# Altium footprint library ESDALC6V1-1U2.PcbLib: 3 footprints
Each footprint in its own frame and in the unit in brackets; x right, y up, seen from the top. Pads: shape width x height; smd on the part's side, far side on the other; paste and mask are expansions set on the pad; w line width, h text height; cw(c..) or ccw(c..) is an arc to the next point about the centre after c.
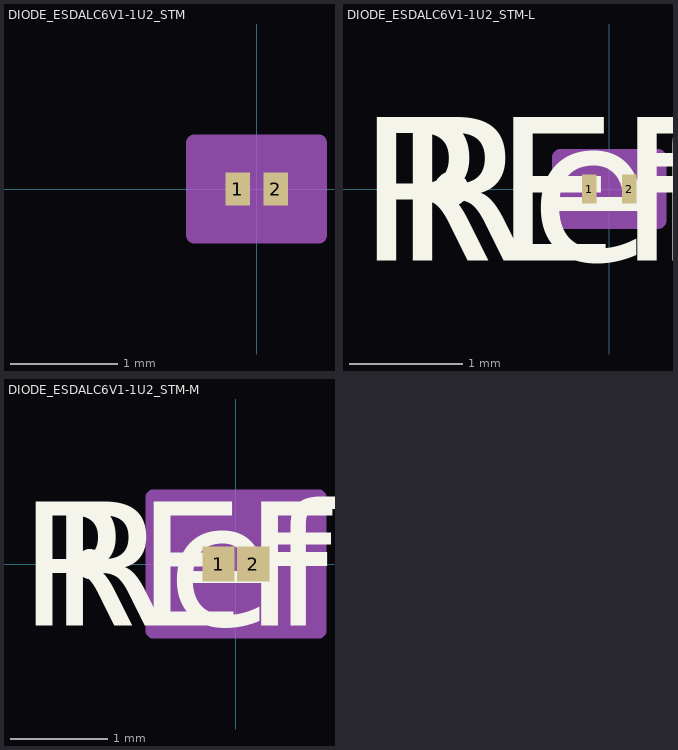
[diagram p0: the footprints below, top view; thin cyan lines are the x and y axes]

## DIODE_ESDALC6V1-1U2_STM [mil]
pads (2):
  rect 9x12 smd paste+0 mask+0: 1(-7,0) 2(7,0)
Top Overlay:
Mechanical 13:
  lines w1: -13,-7 -13,7 13,7 13,-7 -13,-7
Mechanical 15:
  region: -23,-16 -23,16 -23,17 23,17 23,16 23,-16 23,-17 -23,-17
  lines w6: -23,-17 23,-17 23,-16 23,16 23,17 -23,17 -23,16 -23,-16 -23,-17
3D body "DIODE_ESDALC6V1-1U2_STM.step": height 13.11, standoff 0, extent -12.99,-7.01 12.99,7.01

## DIODE_ESDALC6V1-1U2_STM-L [mil]
pads (2):
  rect 5x10 smd paste+0 mask+0: 1(-7,0) 2(7,0)
Top Overlay:
  circle w6: c-55,0 r3
  text "REFDES" at -87.5,-25 h50
  text "RefDes" at -75,-25 h50
Mechanical 13:
  circle w0: c0,0 r3
  lines w1: -13,-7 13,-7 13,7 -13,7 -13,-7
  text "RefDes2" at -87.5,-25 h50
Mechanical 15:
  region: -17,-9 -17,9 -17,11 17,11 17,9 17,-9 17,-11 -17,-11
  lines w6: -17,-9 -17,9 ; -17,-9 -17,-9 ; -17,-9 -17,-11 17,-11 17,-9 ; -17,9 -17,9 ; -17,9 -17,11 17,11 17,9 ; 17,-9 17,9 ; 17,-9 17,-9 ; 17,9 17,9
3D body "DIODE_ESDALC6V1-1U2_STM.step": height 13.11, standoff 0, extent -12.99,-7.01 12.99,7.01

## DIODE_ESDALC6V1-1U2_STM-M [mil]
pads (2):
  rect 13x14 smd paste+0 mask+0: 1(-7,0) 2(7,0)
Top Overlay:
  circle w6: c-59,0 r3
  text "REFDES" at -87.5,-25 h50
  text "RefDes" at -75,-25 h50
Mechanical 13:
  circle w0: c0,0 r3
  lines w1: -13,-7 13,-7 13,7 -13,7 -13,-7
  text "RefDes2" at -87.5,-25 h50
Mechanical 15:
  region: -33,-27 -33.5,-27 -33.5,27 -33,27 33,27 33.5,27 33.5,-27 33,-27
  lines w6: -33,-27 -33.5,-27 -33.5,27 -33,27 ; -33,-27 -33,-27 ; -33,-27 33,-27 ; -33,27 -33,27 ; -33,27 33,27 ; 33,-27 33.5,-27 33.5,27 33,27 ; 33,-27 33,-27 ; 33,27 33,27
3D body "DIODE_ESDALC6V1-1U2_STM.step": height 13.11, standoff 0, extent -12.99,-7.01 12.99,7.01